# EAGLE library part XC9536 (library den)
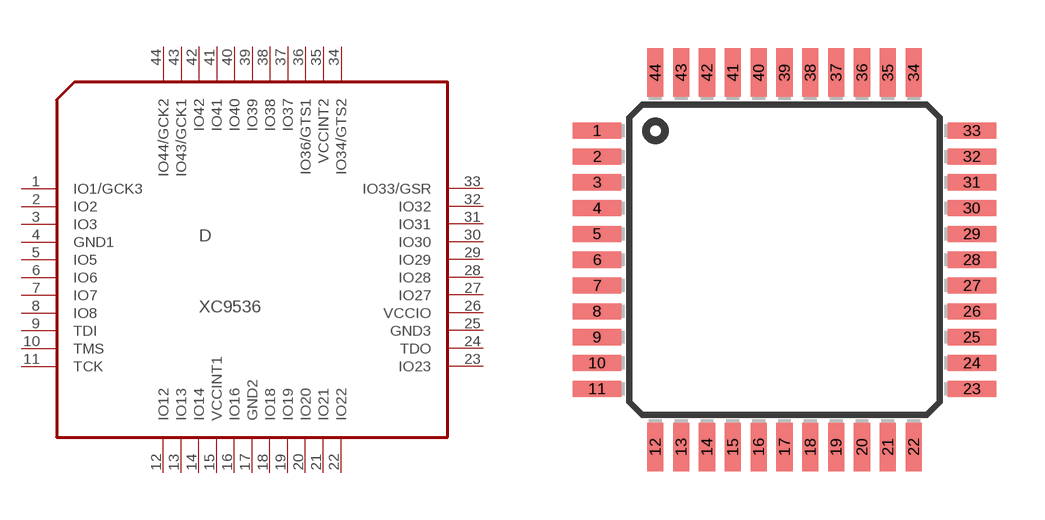
[diagram p29: symbol with the pads of TQFP44; footprint TQFP44]

Designator prefix D

## XC9536  [TQFP44]
1  IO1/GCK3
2  IO2
3  IO3
4  GND1
5  IO5
6  IO6
7  IO7
8  IO8
9  TDI
10  TMS
11  TCK
12  IO12
13  IO13
14  IO14
15  VCCINT1
16  IO16
17  GND2
18  IO18
19  IO19
20  IO20
21  IO21
22  IO22
23  IO23
24  TDO
25  GND3
26  VCCIO
27  IO27
28  IO28
29  IO29
30  IO30
31  IO31
32  IO32
33  IO33/GSR
34  IO34/GTS2
35  VCCINT2
36  IO36/GTS1
37  IO37
38  IO38
39  IO39
40  IO40
41  IO41
42  IO42
43  IO43/GCK1
44  IO44/GCK2

## Footprint TQFP44 (pad centres in mm)
Thin Quad Flat Pack package type TQ
smd 1.5 x 0.5: 1 -5.8,4; 2 -5.8,3.2; 3 -5.8,2.4; 4 -5.8,1.6; 5 -5.8,0.8; 6 -5.8,0; 7 -5.8,-0.8; 8 -5.8,-1.6; 9 -5.8,-2.4; 10 -5.8,-3.2; 11 -5.8,-4; 23 5.8,-4; 24 5.8,-3.2; 25 5.8,-2.4; 26 5.8,-1.6; 27 5.8,-0.8; 28 5.8,0; 29 5.8,0.8; 30 5.8,1.6; 31 5.8,2.4; 32 5.8,3.2; 33 5.8,4
smd 0.5 x 1.5: 12 -4,-5.8; 13 -3.2,-5.8; 14 -2.4,-5.8; 15 -1.6,-5.8; 16 -0.8,-5.8; 17 0,-5.8; 18 0.8,-5.8; 19 1.6,-5.8; 20 2.4,-5.8; 21 3.2,-5.8; 22 4,-5.8; 34 4,5.8; 35 3.2,5.8; 36 2.4,5.8; 37 1.6,5.8; 38 0.8,5.8; 39 0,5.8; 40 -0.8,5.8; 41 -1.6,5.8; 42 -2.4,5.8; 43 -3.2,5.8; 44 -4,5.8